# Altium footprint library LCC_Sq_L.PcbLib: 2 footprints
Each footprint in its own frame and in the unit in brackets; x right, y up, seen from the top. Pads: shape width x height; smd on the part's side, far side on the other; paste and mask are expansions set on the pad; w line width, h text height; cw(c..) or ccw(c..) is an arc to the next point about the centre after c.
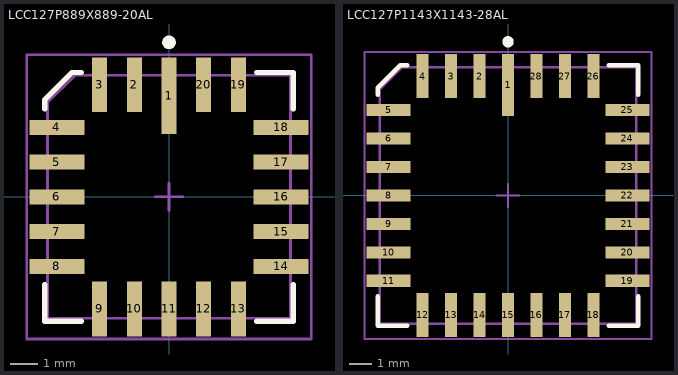
[diagram p0: the footprints below, top view; thin cyan lines are the x and y axes]

## LCC127P889X889-20AL [mm] "LCC, 20-Pins, Body 8.9x8.9mm, Pitch 1.27mm, IPC High Density"
height 1.91
pads (20):
  rect 0.55x2.8 smd: 1(0,3.7)
  rect 0.55x2 smd: 2(-1.27,4.1) 3(-2.54,4.1) 9(-2.54,-4.1) 10(-1.27,-4.1) 11(0,-4.1) 12(1.27,-4.1) 13(2.54,-4.1) 19(2.54,4.1) 20(1.27,4.1)
  rect 2x0.55 smd: 4(-4.1,2.54) 5(-4.1,1.27) 6(-4.1,0) 7(-4.1,-1.27) 8(-4.1,-2.54) 14(4.1,-2.54) 15(4.1,-1.27) 16(4.1,0) 17(4.1,1.27) 18(4.1,2.54)
Top Overlay:
  circle w0.25: c0,5.65 r0.125
  lines w0.2: -4.55,-3.215 -4.55,-4.55 -3.215,-4.55 ; -4.55,3.215 -4.55,3.55 -3.55,4.55 -3.215,4.55 ; 3.215,-4.55 4.55,-4.55 4.55,-3.215 ; 3.215,4.55 4.55,4.55 4.55,3.215
Mechanical 13:
  lines w0.1: -4.445,-4.445 -4.445,3.445 -3.445,4.445 4.445,4.445 4.445,-4.445 -4.445,-4.445
Mechanical 15:
  lines w0.1: -0.5,0 0.5,0 ; 0,-0.5 0,0.5 ; -5.2,-5.2 -5.2,5.2 5.2,5.2 5.2,-5.2 -5.2,-5.2
3D body: height 1.91, standoff 0, extent -4.445,-4.445 4.445,4.445

## LCC127P1143X1143-28AL [mm] "LCC, 28-Pins, Body 11.4x11.4mm, Pitch 1.27mm, IPC High Density"
height 1.87
pads (28):
  rect 0.55x2.75 smd: 1(0,4.925)
  rect 0.55x1.95 smd: 2(-1.27,5.325) 3(-2.54,5.325) 4(-3.81,5.325) 12(-3.81,-5.325) 13(-2.54,-5.325) 14(-1.27,-5.325) 15(0,-5.325) 16(1.27,-5.325) 17(2.54,-5.325) 18(3.81,-5.325) 26(3.81,5.325) 27(2.54,5.325) 28(1.27,5.325)
  rect 1.95x0.55 smd: 5(-5.325,3.81) 6(-5.325,2.54) 7(-5.325,1.27) 8(-5.325,0) 9(-5.325,-1.27) 10(-5.325,-2.54) 11(-5.325,-3.81) 19(5.325,-3.81) 20(5.325,-2.54) 21(5.325,-1.27) 22(5.325,0) 23(5.325,1.27) 24(5.325,2.54) 25(5.325,3.81)
Top Overlay:
  circle w0.25: c0,6.85 r0.125
  lines w0.2: -5.8,-4.485 -5.8,-5.8 -4.485,-5.8 ; -5.8,4.485 -5.8,4.8 -4.8,5.8 -4.485,5.8 ; 4.485,-5.8 5.8,-5.8 5.8,-4.485 ; 4.485,5.8 5.8,5.8 5.8,4.485
Mechanical 13:
  lines w0.1: -5.715,-5.715 -5.715,4.715 -4.715,5.715 5.715,5.715 5.715,-5.715 -5.715,-5.715
Mechanical 15:
  lines w0.1: -0.5,0 0.5,0 ; 0,-0.5 0,0.5 ; -6.4,-6.4 -6.4,6.4 6.4,6.4 6.4,-6.4 -6.4,-6.4
3D body: height 1.87, standoff 0, extent -5.715,-5.715 5.715,5.715